# Altium schematic symbol library TLV.SchLib: 25 symbols
Pins are listed as number, name and electrical type; pins without a type are passive.

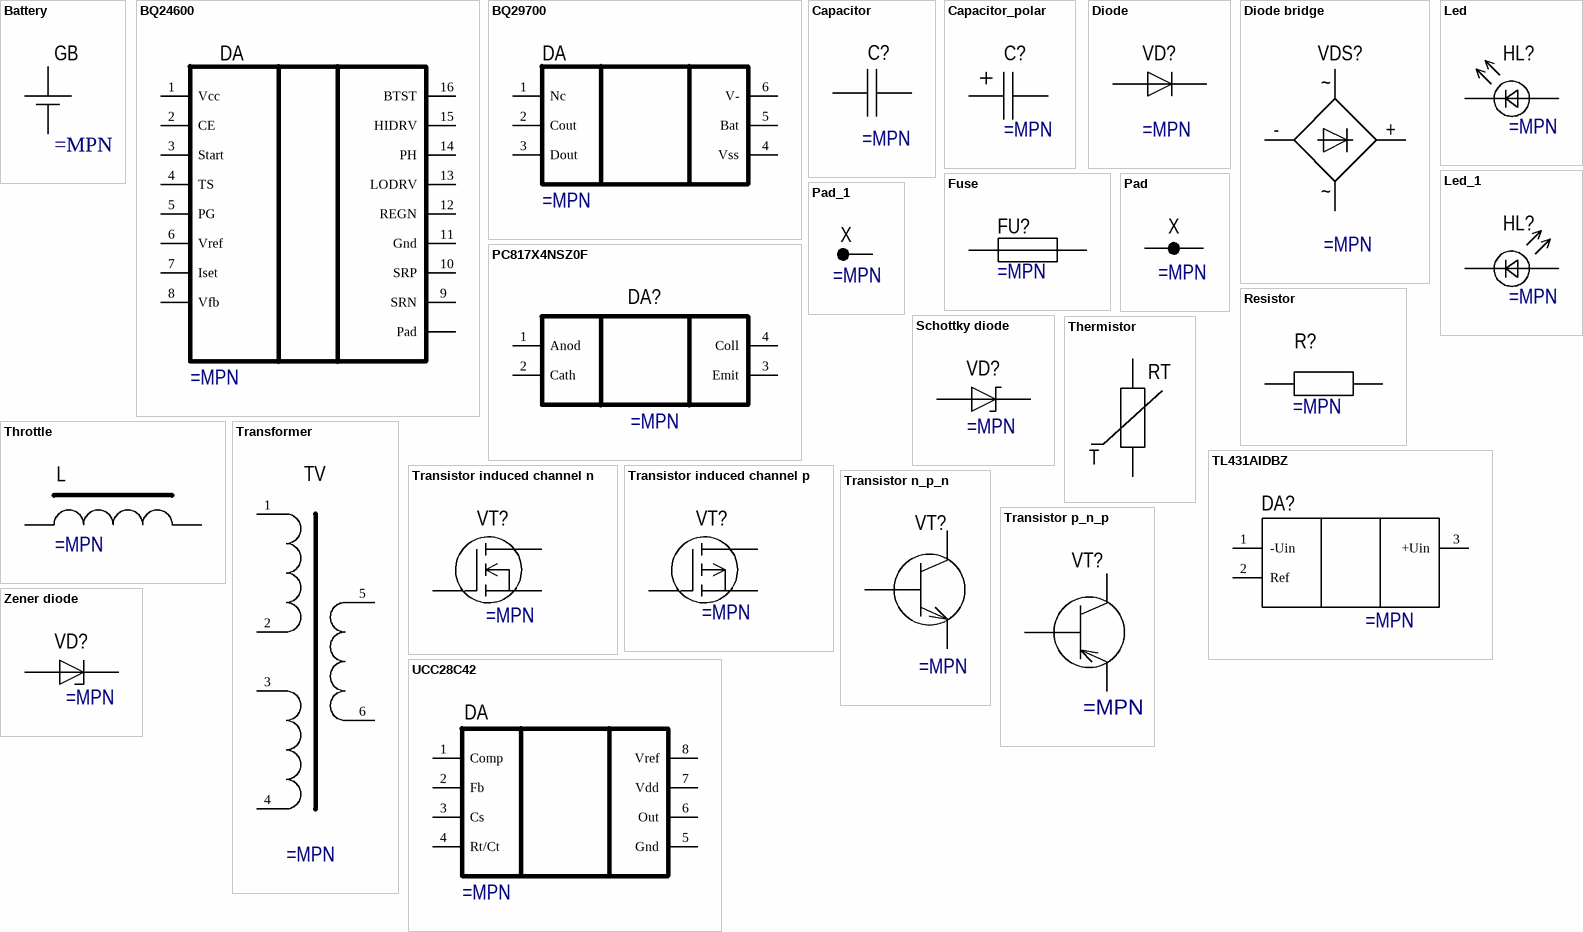
[diagram p0: symbols Battery to Zener diode]

## Battery
designator GB
pins: 1, 2

## BQ24600
designator DA
pins: 1 Vcc, 2 CE, 3 Start, 4 TS, 5 PG, 6 Vref, 7 Iset, 8 Vfb, 9 SRN, 10 SRP, 11 Gnd, 12 REGN, 13 LODRV, 14 PH, 15 HIDRV, 16 BTST, 17 Pad

## BQ29700
designator DA
pins: 1 Nc, 2 Cout, 3 Dout, 4 Vss, 5 Bat, 6 V-

## Capacitor
designator C?
pins: 1, 2

## Capacitor_polar
designator C?
pins: 1, 2

## Diode
designator VD?
pins: 1 anod, 2 catod

## Diode bridge
designator VDS?
pins: 1 +, 2 AC, 3 AC, 4 -
text: ~

## Fuse
designator FU?
pins: 1, 2

## Led
designator HL?
pins: 1 -Led, 2 +Led

## Led_1
designator HL?
pins: 1 -Led, 2 +Led

## Pad
designator X
pins: 1, 2

## Pad_1
designator X
pins: 2

## PC817X4NSZ0F
designator DA?
pins: 1 Anod, 2 Cath, 3 Emit, 4 Coll

## Resistor
designator R?
pins: 1, 2

## Schottky diode
designator VD?
pins: 1 anod, 2 catod

## Thermistor
designator RT, comment T
pins: 1, 2

## Throttle
designator L
pins: 1, 2

## TL431AIDBZ
designator DA?
pins: 1 -Uin, 2 Ref, 3 +Uin

## Transformer
designator TV
pins: 1, 2, 3, 4, 5, 6

## Transistor induced channel n
designator VT?
pins: 1 S, 2 S, 3 D

## Transistor induced channel p
designator VT?
pins: 1 S, 2 S, 3 D

## Transistor n_p_n
designator VT?
pins: 1 База, 2 Коллектор, 3 Эмиттер

## Transistor p_n_p
designator VT?
pins: 1 База, 2 Коллектор, 3 Эмиттер

## UCC28C42
designator DA
pins: 1 Comp, 2 Fb, 3 Cs, 4 Rt/Ct, 5 Gnd, 6 Out, 7 Vdd, 8 Vref

## Zener diode
designator VD?
pins: 1 anod, 2 catod